# Altium footprint library SOIC-8-W_in_board.PcbLib: 1 footprints
Each footprint in its own frame and in the unit in brackets; x right, y up, seen from the top. Pads: shape width x height; smd on the part's side, far side on the other; paste and mask are expansions set on the pad; w line width, h text height; cw(c..) or ccw(c..) is an arc to the next point about the centre after c.
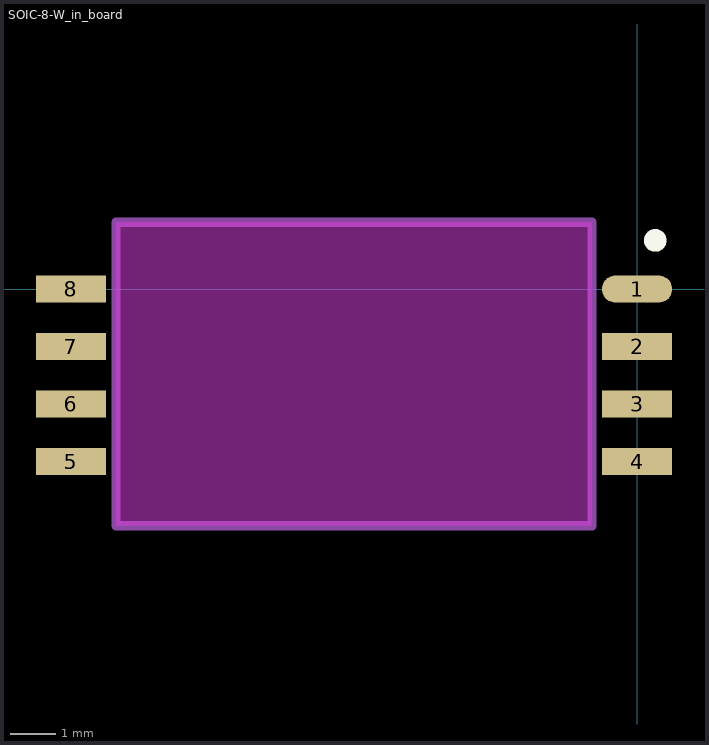
[diagram p0: the footprint, top view; thin cyan lines are the x and y axes]

## SOIC-8-W_in_board [mm]
pads (8):
  oval 1.55x0.6 smd: 1(0,0)
  rect 1.55x0.6 smd: 2(0,-1.27) 3(0,-2.54) 4(0,-3.81) 5(-12.5,-3.81) 6(-12.5,-2.54) 7(-12.5,-1.27) 8(-12.5,0)
Top Overlay:
  circle w0.25: c0.4,1.075 r0.125
Keep-Out Layer:
  board cut-out: -11.5,1.475 -1,1.475 -1,-5.225 -11.5,-5.225
Mechanical 1:
  lines w0.2: -11.5,-5.225 -11.5,1.475 -1,1.475 -1,-5.225 -11.5,-5.225
3D body "Wide SOIC-8.step": height 0.1, standoff -2.7, extent -12,-4.905 -0.5,1.095